# Altium schematic symbol library 222-4497.SchLib: 1 symbol
Pins are listed as number, name and electrical type; pins without a type are passive.

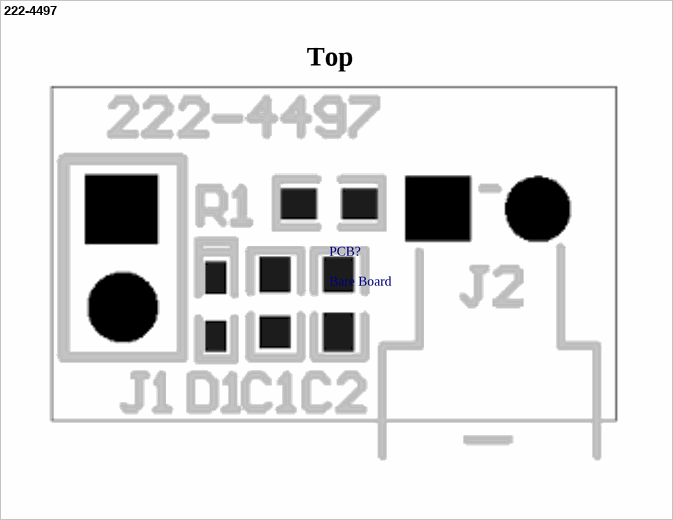
[diagram p0: symbol 222-4497]

## 222-4497
designator PCB?, comment Bare Board
BT Switch conditioning Bare Board
text: Top